# EAGLE library part LTC2875 (library can-transceivers)
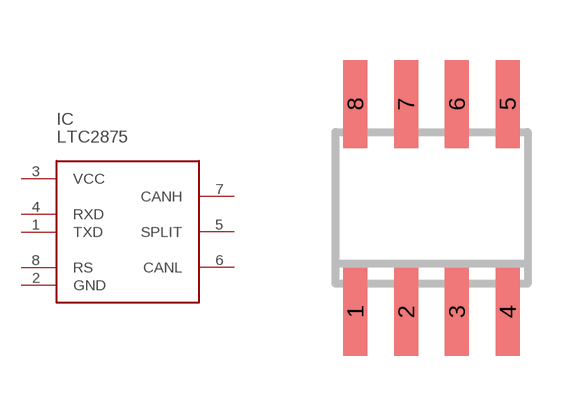
[diagram p0: symbol with the pads of SOIC8; footprint SOIC8]

Designator prefix IC

## LTC2875XS  [SOIC8]
1  TXD
2  GND
3  VCC
4  RXD
5  SPLIT
6  CANL
7  CANH
8  RS

## Footprint SOIC8 (pad centres in mm)
Small Outline IC
smd 0.6 x 2.2: 1 -1.905,-2.6; 2 -0.635,-2.6; 3 0.635,-2.6; 4 1.905,-2.6; 5 1.905,2.6; 6 0.635,2.6; 7 -0.635,2.6; 8 -1.905,2.6